# EAGLE library part DS3232 (library ds3232)
Maxims DS3232 is a high precision rtc
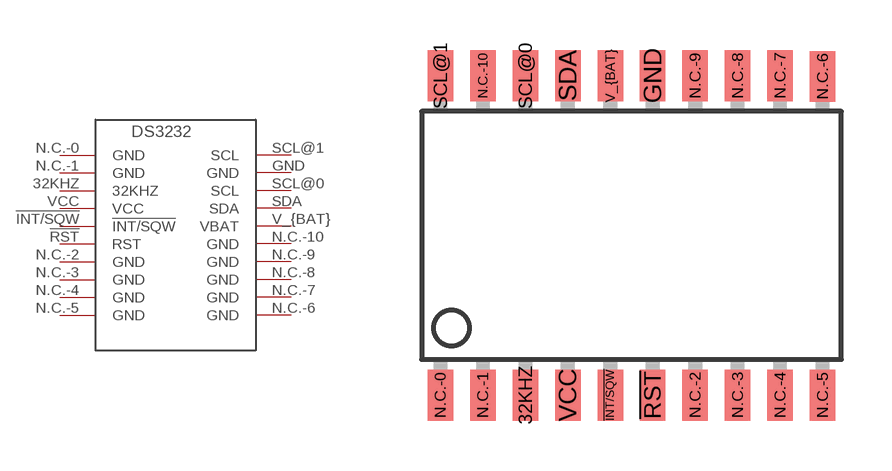
[diagram p0: symbol with the pads of SO20-2; footprint SO20-2]

Designator prefix -

## DS3232  [SO20-2]
32KHZ  32KHZ
!INT/SQW  !INT/SQW
!RST  RST
GND  GND
N.C.-0  GND
N.C.-1  GND
N.C.-2  GND
N.C.-3  GND
N.C.-4  GND
N.C.-5  GND
N.C.-6  GND
N.C.-7  GND
N.C.-8  GND
N.C.-9  GND
N.C.-10  GND
SCL@0  SCL
SCL@1  SCL
SDA  SDA
V_{BAT}  VBAT
VCC  VCC

## Footprint SO20-2 (pad centres in mm)
Small Outline Package
smd 0.762 x 1.524: 32KHZ -3.175,-4.775; !INT/SQW -0.635,-4.775; !RST 0.635,-4.775; GND 0.635,4.775; N.C.-0 -5.715,-4.775; N.C.-1 -4.445,-4.775; N.C.-2 1.905,-4.775; N.C.-3 3.175,-4.775; N.C.-4 4.445,-4.775; N.C.-5 5.715,-4.775; N.C.-6 5.715,4.75; N.C.-7 4.445,4.775; N.C.-8 3.175,4.775; N.C.-9 1.905,4.775; N.C.-10 -4.445,4.775; SCL@0 -3.175,4.775; SCL@1 -5.715,4.775; SDA -1.905,4.775; V_{BAT} -0.635,4.775; VCC -1.905,-4.775